# Altium footprint library PcbLib1.PcbLib: 27 footprints (part 2 of 2)
Each footprint in its own frame and in the unit in brackets; x right, y up, seen from the top. Pads: shape width x height; smd on the part's side, far side on the other; paste and mask are expansions set on the pad; w line width, h text height; cw(c..) or ccw(c..) is an arc to the next point about the centre after c.
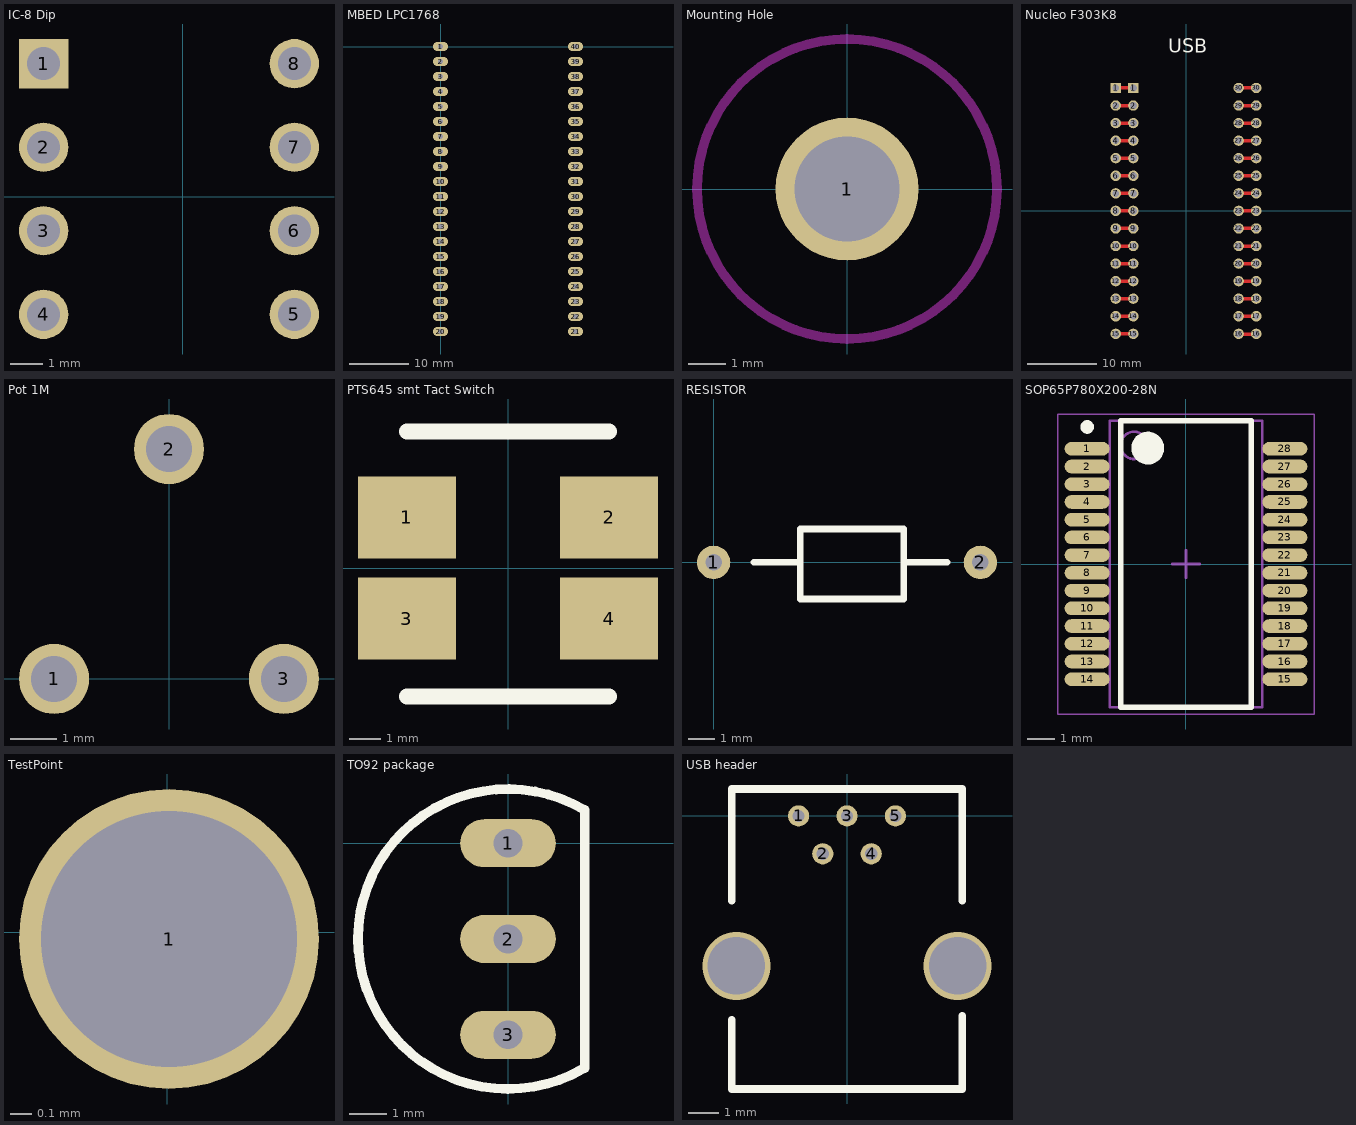
[diagram p1: the footprints below, top view; thin cyan lines are the x and y axes]

## IC-8 Dip [mm]
pads (8):
  rect 1.5x1.5 hole 1: 1(-4.224,4.048)
  round 1.5 hole 1: 2(-4.224,1.508) 3(-4.224,-1.032) 4(-4.224,-3.572) 5(3.396,-3.572) 6(3.396,-1.032) 7(3.396,1.508) 8(3.396,4.048)

## MBED LPC1768 [mil]
pads (40):
  oval 100x60 hole 35.43: 1(0,0) 2(0,-100) 3(0,-200) 4(0,-300) 5(0,-400) 6(0,-500) 7(0,-600) 8(0,-700) 9(0,-800) 10(0,-900) 11(0,-1000) 12(0,-1100) 13(0,-1200) 14(0,-1300) 15(0,-1400) 16(0,-1500) 17(0,-1600) 18(0,-1700) 19(0,-1800) 20(0,-1900) 21(900,-1900) 22(900,-1800) 23(900,-1700) 24(900,-1600) 25(900,-1500) 26(900,-1400) 27(900,-1300) 28(900,-1200) 29(900,-1100) 30(900,-1000) 31(900,-900) 32(900,-800) 33(900,-700) 34(900,-600) 35(900,-500) 36(900,-400) 37(900,-300) 38(900,-200) 39(900,-100) 40(900,0)

## Mounting Hole [mil]
pads (1):
  round 150 hole 110: 1(0,0)
Keep-Out Layer:
  circle w10: c0,0 r157.48

## Nucleo F303K8 [mm] "Nucleo Header"
pads (60):
  rect 1.5x1.5 hole 1: 1(-10.16,17.78) 1(-7.62,17.78)
  round 1.5 hole 1: 2(-10.16,15.24) 2(-7.62,15.24) 3(-10.16,12.7) 3(-7.62,12.7) 4(-10.16,10.16) 4(-7.62,10.16) 5(-10.16,7.62) 5(-7.62,7.62) 6(-10.16,5.08) 6(-7.62,5.08) 7(-10.16,2.54) 7(-7.62,2.54) 8(-10.16,0) 8(-7.62,0) 9(-10.16,-2.54) 9(-7.62,-2.54) 10(-10.16,-5.08) 10(-7.62,-5.08) 11(-10.16,-7.62) 11(-7.62,-7.62) 12(-10.16,-10.16) 12(-7.62,-10.16) 13(-10.16,-12.7) 13(-7.62,-12.7) 14(-10.16,-15.24) 14(-7.62,-15.24) 15(-10.16,-17.78) 15(-7.62,-17.78) 16(7.62,-17.78) 16(10.16,-17.78) 17(7.62,-15.24) 17(10.16,-15.24) 18(7.62,-12.7) 18(10.16,-12.7) 19(7.62,-10.16) 19(10.16,-10.16) 20(7.62,-7.62) 20(10.16,-7.62) 21(7.62,-5.08) 21(10.16,-5.08) 22(7.62,-2.54) 22(10.16,-2.54) 23(7.62,0) 23(10.16,0) 24(7.62,2.54) 24(10.16,2.54) 25(7.62,5.08) 25(10.16,5.08) 26(7.62,7.62) 26(10.16,7.62) 27(7.62,10.16) 27(10.16,10.16) 28(7.62,12.7) 28(10.16,12.7) 29(7.62,15.24) 29(10.16,15.24) 30(7.62,17.78) 30(10.16,17.78)
Top Layer:
  lines w0.508: -10.16,-17.78 -7.62,-17.78 ; -10.16,-15.24 -7.62,-15.24 ; -10.16,-12.7 -7.62,-12.7 ; -10.16,-10.16 -7.62,-10.16 ; -10.16,-7.62 -7.62,-7.62 ; -10.16,-5.08 -7.62,-5.08 ; -10.16,-2.54 -7.62,-2.54 ; -10.16,0 -7.62,0 ; -10.16,2.54 -7.62,2.54 ; -10.16,5.08 -7.62,5.08 ; -10.16,7.62 -7.62,7.62 ; -10.16,10.16 -7.62,10.16 ; -10.16,12.7 -7.62,12.7 ; -10.16,15.24 -7.62,15.24 ; -10.16,17.78 -7.62,17.78 ; 7.442,-15.265 9.982,-15.265 ; 7.62,-12.7 10.16,-12.7 ; 7.62,-10.16 10.16,-10.16 ; 7.62,-7.62 10.16,-7.62 ; 7.62,-5.08 10.16,-5.08 ; 7.62,-2.54 10.16,-2.54 ; 7.62,0 10.16,0 ; 7.62,2.54 10.16,2.54 ; 7.62,5.08 10.16,5.08 ; 7.62,7.62 10.16,7.62 ; 7.62,10.16 10.16,10.16 ; 7.62,12.7 10.16,12.7 ; 7.62,15.24 10.16,15.24 ; 7.62,17.78 10.16,17.78 ; 7.722,-17.831 10.262,-17.831
Top Overlay:
  text "." at -10.16,20.32 h5.08
  text "USB" at -2.54,22.86 h2

## Pot 1M [mil]
pads (3):
  round 60 hole 39.37: 1(-98.43,0) 2(0,196.85) 3(98.43,0)

## PTS645 smt Tact Switch [mm]
pads (4):
  rect 3.1x2.6 smd mask+0.102: 1(-3.2,1.6) 2(3.2,1.6) 3(-3.2,-1.6) 4(3.2,-1.6)
Top Overlay:
  lines w0.508: -3.2,-4.064 3.2,-4.064 ; -3.2,4.318 3.2,4.318

## RESISTOR [mil]
pads (2):
  round 50 hole 25: 1(0,0) 2(400,0)
Top Overlay:
  lines w10: 60,0 130,0 ; 285,0 350,0 ; 130,0 130,50 285,50 285,-55 130,-55 130,0

## SOP65P780X200-28N [mm] "SOP, 28-Leads, Body 10.20x5.30mm, Pitch 0.65mm, IPC Medium Density"
height 2
pads (28):
  oval 1.65x0.5 smd: 1(-3.625,4.225) 2(-3.625,3.575) 3(-3.625,2.925) 4(-3.625,2.275) 5(-3.625,1.625) 6(-3.625,0.975) 7(-3.625,0.325) 8(-3.625,-0.325) 9(-3.625,-0.975) 10(-3.625,-1.625) 11(-3.625,-2.275) 12(-3.625,-2.925) 13(-3.625,-3.575) 14(-3.625,-4.225) 15(3.625,-4.225) 16(3.625,-3.575) 17(3.625,-2.925) 18(3.625,-2.275) 19(3.625,-1.625) 20(3.625,-0.975) 21(3.625,-0.325) 22(3.625,0.325) 23(3.625,0.975) 24(3.625,1.625) 25(3.625,2.275) 26(3.625,2.925) 27(3.625,3.575) 28(3.625,4.225)
Top Overlay:
  circle w0.6: c-1.4,4.25 r0.3
  circle w0.25: c-3.625,5.025 r0.125
  lines w0.2: -2.4,-5.25 2.4,-5.25 2.4,5.25 -2.4,5.25 -2.4,-5.25
Mechanical 13:
  circle w0.1: c-1.9,4.35 r0.5
  lines w0.1: -2.8,-5.25 2.8,-5.25 2.8,5.25 -2.8,5.25 -2.8,-5.25
Mechanical 15:
  lines w0.05: -4.7,-5.5 4.7,-5.5 4.7,5.5 -4.7,5.5 -4.7,-5.5
  lines w0.1: -0.5,0 0.5,0 ; 0,-0.5 0,0.5
3D body: height 2, standoff 0.1, extent -2.8,-5.25 2.8,5.25

## TestPoint [mil]
pads (1):
  round 55 hole 47 mask+3: 1(0.32,-1.26)

## TO92 package [mil] "Voltage reg + &  - , MOSFET"
pads (3):
  oval 100x50 hole 30: 1(0,0) 2(0,-100) 3(0,-200)
Top Overlay:
  lines w10: 78.22,-235.58 cw(c0,-100) 79.63,34.76 ; 80,-235 80,34.76

## USB header [mm]
pads (5):
  round 0.7 hole 0.4: 1(-1.6,0) 2(-0.8,-1.25) 3(0,0) 4(0.8,-1.25) 5(1.6,0)
via 3.65,-4.95 diameter 2.25 hole 1.9
via -3.65,-4.95 diameter 2.25 hole 1.9
Top Overlay:
  lines w0.254: -3.81,-6.731 -3.81,-9.017 3.81,-9.017 3.81,-6.604 ; -3.81,-2.794 -3.81,0.889 3.81,0.889 3.81,-2.794